# EAGLE library part PINHEADER-1X8 (library pinheader-1x8)
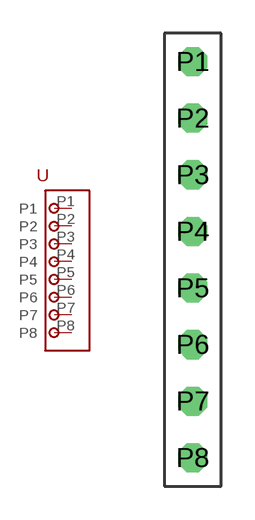
[diagram p0: symbol with the pads of PINHEADER-1X8; footprint PINHEADER-1X8]

Designator prefix -

## PINHEADER-1X8  [PINHEADER-1X8]
P1  P1
P2  P2
P3  P3
P4  P4
P5  P5
P6  P6
P7  P7
P8  P8

## Footprint PINHEADER-1X8 (pad centres in mm)
drill 0.8 octagon: P1 0,8.89; P2 0,6.35; P3 0,3.81; P4 0,1.27; P5 0,-1.27; P6 0,-3.81; P7 0,-6.35; P8 0,-8.89